# Altium schematic symbol library DRV8833PW.SchLib: 1 symbol
Pins are listed as number, name and electrical type; pins without a type are passive.

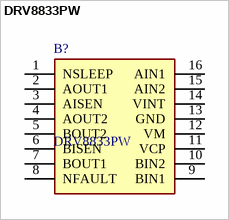
[diagram p0: symbol DRV8833PW]

## DRV8833PW
designator B?
Motor / Motion / Ignition Controllers & Drivers DRV8833 EVAL MOD; Manufacturer_Name: Texas Instruments; Geometry.Height: 1.2mm; Mouser Part Number: 595-DRV8833PW; Mouser Price/Stock: https://www.mouser.co.uk/ProductDetail/Texas-Instruments/DRV8833PW?qs=biyDIajrTn6dSTURhvWZBQ%3D%3D; Manufacturer_Part_Number: DRV8833PW; Datasheet Link: http://www.ti.com/lit/ds/symlink/drv8833.pdf
footprint SOP65P640X120-16N
pins: 1 NSLEEP, 2 AOUT1, 3 AISEN, 4 AOUT2, 5 BOUT2, 6 BISEN, 7 BOUT1, 8 NFAULT, 9 BIN1, 10 BIN2, 11 VCP, 12 VM, 13 GND, 14 VINT, 15 AIN2, 16 AIN1